# Altium footprint library TMP103.PcbLib: 1 footprints
Each footprint in its own frame and in the unit in brackets; x right, y up, seen from the top. Pads: shape width x height; smd on the part's side, far side on the other; paste and mask are expansions set on the pad; w line width, h text height; cw(c..) or ccw(c..) is an arc to the next point about the centre after c.
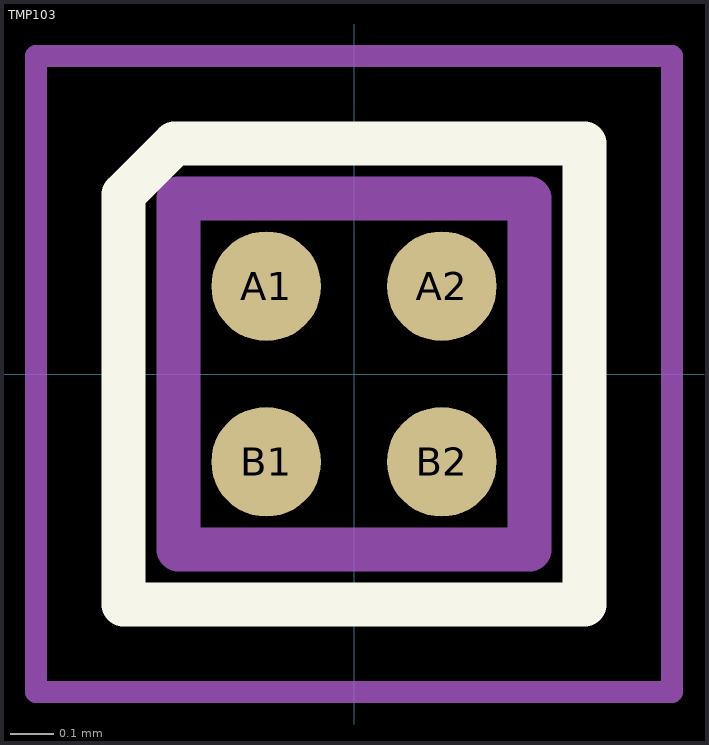
[diagram p0: the footprint, top view; thin cyan lines are the x and y axes]

## TMP103 [mm] "Pitch 0.4mm Body 0.76X0.76mm High 0.625mm"
height 0.625
pads (4):
  round 0.25 smd: A1(-0.2,0.2) A2(0.2,0.2) B1(-0.2,-0.2) B2(0.2,-0.2)
Top Overlay:
  lines w0.1: -0.525,-0.525 -0.525,0.409 -0.409,0.525 0.525,0.525 ; -0.525,-0.525 0.525,-0.525 ; 0.525,-0.525 0.525,0.525
Mechanical 13:
  lines w0.1: -0.4,-0.4 -0.4,0.4 0.4,0.4 0.4,-0.4 -0.4,-0.4
Mechanical 15:
  lines w0.05: -0.725,-0.725 0.725,-0.725 0.725,0.725 -0.725,0.725 -0.725,-0.725
3D body: height 0.52, standoff -0.03, extent -0.38,-0.37 0.38,0.39